# EAGLE library part SIM18 (library Labor)
SIMCom presents an ultra compact and reliable GPS module-SIM18. This is a standalone L1 frequency GPS module in a SMT type and it is designed with SiRF4 high sensitivity navigation engine, which allows you to benefit from small dimensions and cost-effective solutions.
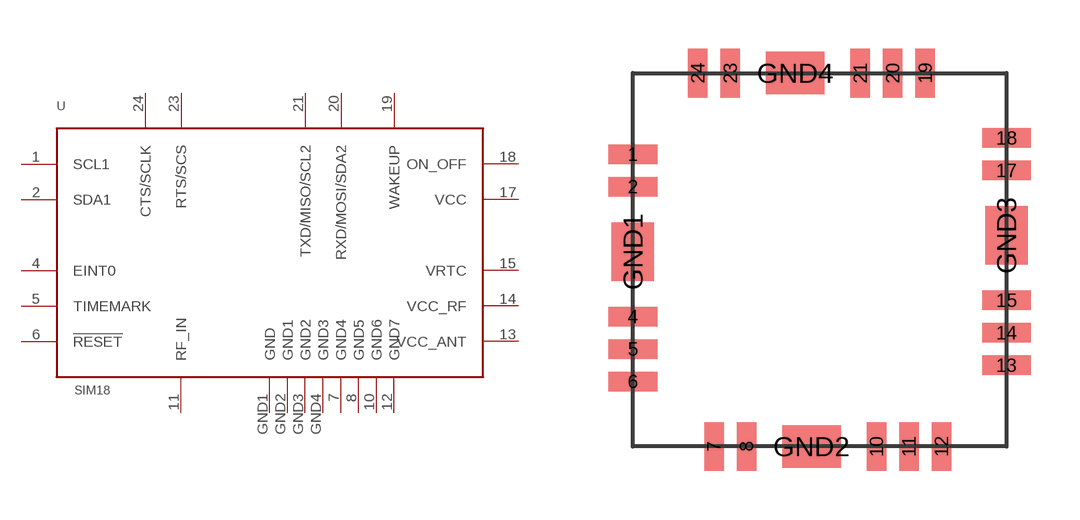
[diagram p11: symbol with the pads of SIM18; footprint SIM18]

Designator prefix -

## SIM18  [SIM18]
1  SCL1
2  SDA1
4  EINT0
5  TIMEMARK
6  !RESET
7  GND4
8  GND5
10  GND6
11  RF_IN
12  GND7
13  VCC_ANT
14  VCC_RF
15  VRTC
17  VCC
18  ON_OFF
19  WAKEUP
20  RXD/MOSI/SDA2
21  TXD/MISO/SCL2
23  RTS/SCS
24  CTS/SCLK
GND1  GND
GND2  GND1
GND3  GND2
GND4  GND3

## Footprint SIM18 (pad centres in mm)
PLASTIC LEADED CHIP CARRIER
smd 1.5 x 0.6: 1 -6,3; 2 -6,2; 4 -6,-2; 5 -6,-3; 6 -6,-4; 13 5.5,-3.5; 14 5.5,-2.5; 15 5.5,-1.5; 17 5.5,2.5; 18 5.5,3.5
smd 0.6 x 1.5: 7 -3.5,-6; 8 -2.5,-6; 10 1.5,-6; 11 2.5,-6; 12 3.5,-6; 19 3,5.5; 20 2,5.5; 21 1,5.5; 23 -3,5.5; 24 -4,5.5
smd 1.3 x 1.8: GND1 -6,0; GND3 5.5,0.5
smd 1.8 x 1.3: GND2 -0.5,-6; GND4 -1,5.5